# Altium schematic symbol library MT48LC16M16A2.Schlib: 1 symbol
Pins are listed as number, name and electrical type; pins without a type are passive.

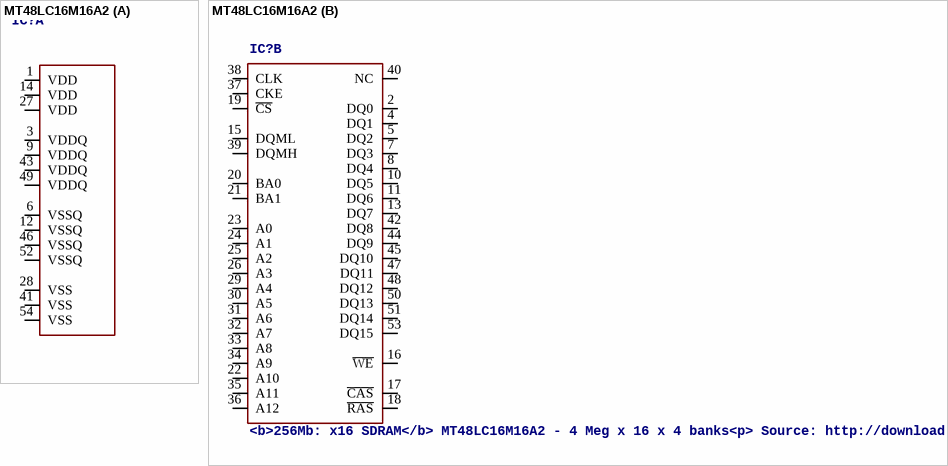
[diagram p0: symbol MT48LC16M16A2]

## MT48LC16M16A2
designator IC?, comment <b>256Mb: x16 SDRAM</b> MT48LC16M16A2 - 4 Meg x 16 x 4 banks<p> / Source: http://download.micron.com/pdf/datasheets/dram/sdram/256MSDRAM.pdf
OC_FARNELL: unknown; OC_NEWARK: unknown
footprint TSOP54-400
part A pins: 1 VDD (power), 3 VDDQ (power), 6 VSSQ (power), 9 VDDQ (power), 12 VSSQ (power), 14 VDD (power), 27 VDD (power), 28 VSS (power), 41 VSS (power), 43 VDDQ (power), 46 VSSQ (power), 49 VDDQ (power), 52 VSSQ (power), 54 VSS (power)
part B pins: 2 DQ0 (hiz), 4 DQ1 (hiz), 5 DQ2 (hiz), 7 DQ3 (hiz), 8 DQ4 (hiz), 10 DQ5 (hiz), 11 DQ6 (hiz), 13 DQ7 (hiz), 15 DQML, 16 ~{WE}, 17 ~{CAS}, 18 ~{RAS}, 19 ~{CS}, 20 BA0, 21 BA1, 22 A10, 23 A0, 24 A1, 25 A2, 26 A3, 29 A4, 30 A5, 31 A6, 32 A7, 33 A8, 34 A9, 35 A11, 36 A12, 37 CKE, 38 CLK, 39 DQMH, 40 NC, 42 DQ8 (hiz), 44 DQ9 (hiz), 45 DQ10 (hiz), 47 DQ11 (hiz), 48 DQ12 (hiz), 50 DQ13 (hiz), 51 DQ14 (hiz), 53 DQ15 (hiz)